# Altium footprint library WCAP-AIG8.PcbLib: 28 footprints (part 2 of 2)
Each footprint in its own frame and in the unit in brackets; x right, y up, seen from the top. Pads: shape width x height; smd on the part's side, far side on the other; paste and mask are expansions set on the pad; w line width, h text height; cw(c..) or ccw(c..) is an arc to the next point about the centre after c.
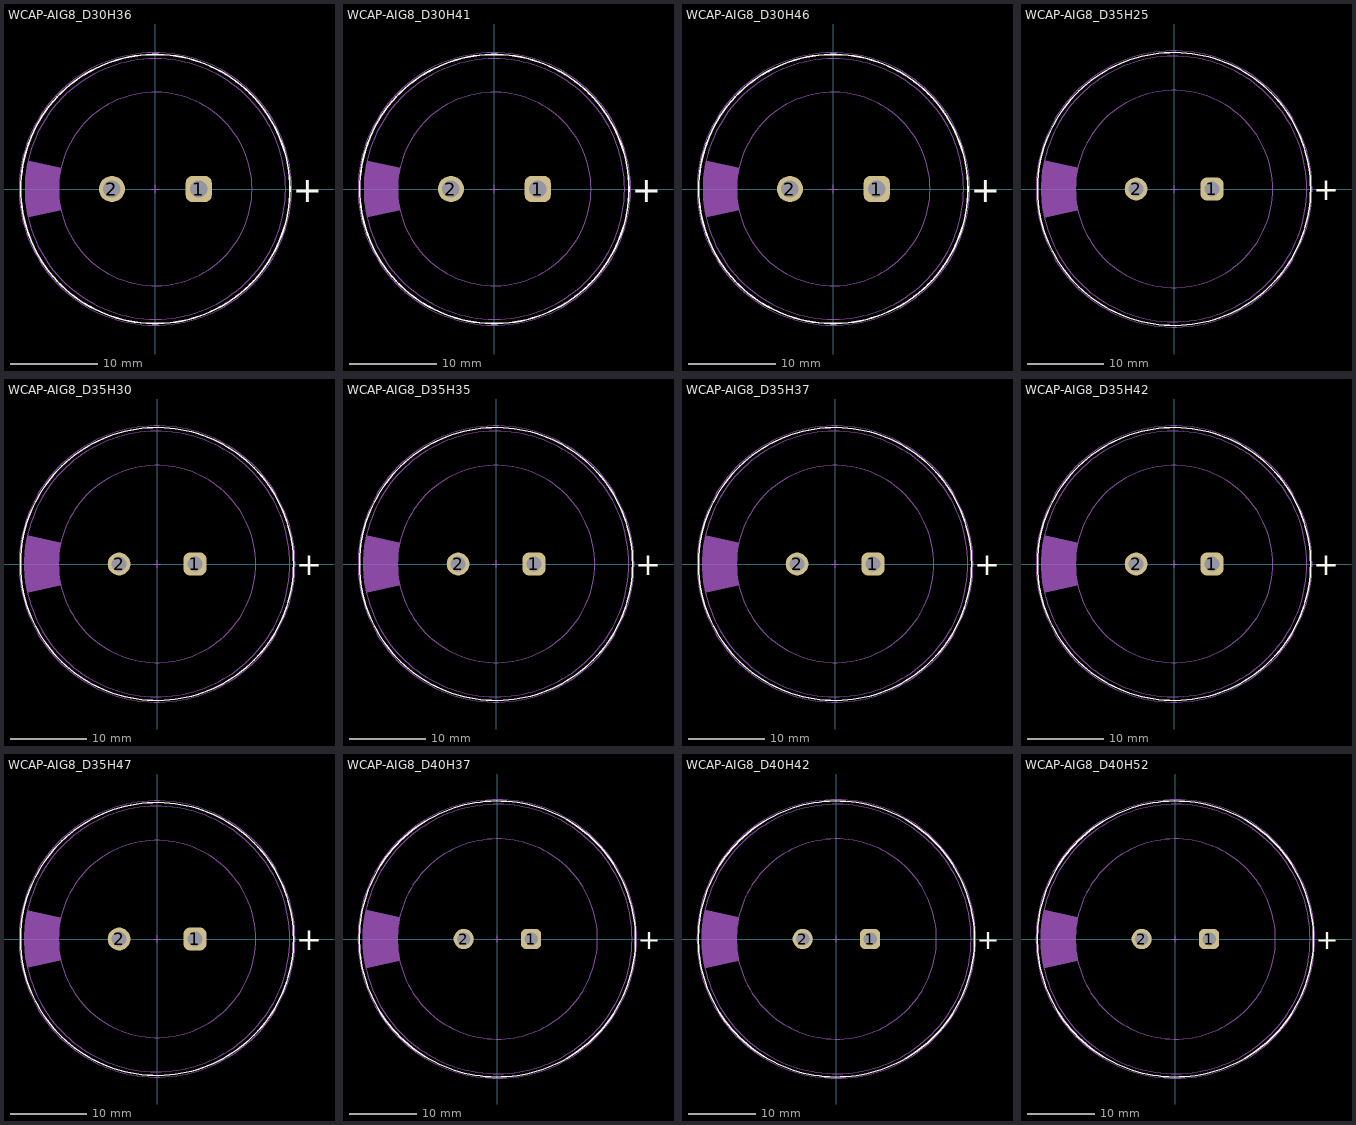
[diagram p1: the footprints below, top view; thin cyan lines are the x and y axes]

## WCAP-AIG8_D30H36 [mm] "Aluminium Electrolytic Snap-In Capacitors, 30x36mm"
height 36
pads (2):
  rrect50% 3x3 hole 2: 1(5,0)
  round 3 hole 2: 2(-5,0)
Top Overlay:
  circle w0.2: c0,0 r15.5
  text "+" at 15.85,-1.5 h3
Top Assembly:
  circle w0.1: c0,0 r11.14
  circle w0.1: c0,0 r15
  region: -14.643,-3.251 -10.874,-2.422 -10.874,-2.421 -10.936,-2.122 -11.036,-1.52 -11.102,-0.914 -11.136,-0.305 -11.136,0.305 -11.102,0.914 -11.036,1.52 -10.936,2.122 -10.874,2.421 -10.874,2.422 -14.643,3.251 -14.732,2.851 -14.866,2.042 -14.955,1.228 -15,0.41 -15,-0.41 -14.955,-1.228 -14.866,-2.042 -14.732,-2.851
Top Designator:
  text ".Designator" at -3.647,-0.357 h1
Top 3D Body:
  circle w0.1: c0,0 r11.14
  circle w0.1: c0,0 r15
  region: -14.643,-3.251 -10.874,-2.422 -10.874,-2.421 -10.936,-2.122 -11.036,-1.52 -11.102,-0.914 -11.136,-0.305 -11.136,0.305 -11.102,0.914 -11.036,1.52 -10.936,2.122 -10.874,2.421 -10.874,2.422 -14.643,3.251 -14.732,2.851 -14.866,2.042 -14.955,1.228 -15,0.41 -15,-0.41 -14.955,-1.228 -14.866,-2.042 -14.732,-2.851
Top Courtyard:
  circle w0.05: c0,0 r15.7
Top Component Center:
  lines w0.1: -0.5,0 0.5,0 ; 0,-0.5 0,0.5
3D body "30x36.stp": height 36.09, standoff -6.05, extent -14.96,-14.999 14.999,15

## WCAP-AIG8_D30H41 [mm] "Aluminium Electrolytic Snap-In Capacitors, 30x41mm"
height 41
pads (2):
  rrect50% 3x3 hole 2: 1(5,0)
  round 3 hole 2: 2(-5,0)
Top Overlay:
  circle w0.2: c0,0 r15.5
  text "+" at 15.85,-1.5 h3
Top Assembly:
  circle w0.1: c0,0 r15
  circle w0.1: c0,0 r11.14
  region: -14.643,-3.251 -10.874,-2.422 -10.874,-2.421 -10.936,-2.122 -11.036,-1.52 -11.102,-0.914 -11.136,-0.305 -11.136,0.305 -11.102,0.914 -11.036,1.52 -10.936,2.122 -10.874,2.421 -10.874,2.422 -14.643,3.251 -14.732,2.851 -14.866,2.042 -14.955,1.228 -15,0.41 -15,-0.41 -14.955,-1.228 -14.866,-2.042 -14.732,-2.851
Top Designator:
  text ".Designator" at -3.647,-0.357 h1
Top 3D Body:
  circle w0.1: c0,0 r15
  circle w0.1: c0,0 r11.14
  region: -14.643,-3.251 -10.874,-2.422 -10.874,-2.421 -10.936,-2.122 -11.036,-1.52 -11.102,-0.914 -11.136,-0.305 -11.136,0.305 -11.102,0.914 -11.036,1.52 -10.936,2.122 -10.874,2.421 -10.874,2.422 -14.643,3.251 -14.732,2.851 -14.866,2.042 -14.955,1.228 -15,0.41 -15,-0.41 -14.955,-1.228 -14.866,-2.042 -14.732,-2.851
Top Courtyard:
  circle w0.05: c0,0 r15.7
Top Component Center:
  lines w0.1: -0.5,0 0.5,0 ; 0,-0.5 0,0.5
3D body "30x41.stp": height 41.09, standoff -6.05, extent -14.96,-14.995 14.999,14.996

## WCAP-AIG8_D30H46 [mm] "Aluminium Electrolytic Snap-In Capacitors, 30x46mm"
height 46
pads (2):
  rrect50% 3x3 hole 2: 1(5,0)
  round 3 hole 2: 2(-5,0)
Top Overlay:
  circle w0.2: c0,0 r15.5
  text "+" at 15.85,-1.5 h3
Top Assembly:
  circle w0.1: c0,0 r11.14
  circle w0.1: c0,0 r15
  region: -14.643,-3.251 -10.874,-2.422 -10.874,-2.421 -10.936,-2.122 -11.036,-1.52 -11.102,-0.914 -11.136,-0.305 -11.136,0.305 -11.102,0.914 -11.036,1.52 -10.936,2.122 -10.874,2.421 -10.874,2.422 -14.643,3.251 -14.732,2.851 -14.866,2.042 -14.955,1.228 -15,0.41 -15,-0.41 -14.955,-1.228 -14.866,-2.042 -14.732,-2.851
Top Designator:
  text ".Designator" at -3.647,-0.357 h1
Top 3D Body:
  circle w0.1: c0,0 r11.14
  circle w0.1: c0,0 r15
  region: -14.643,-3.251 -10.874,-2.422 -10.874,-2.421 -10.936,-2.122 -11.036,-1.52 -11.102,-0.914 -11.136,-0.305 -11.136,0.305 -11.102,0.914 -11.036,1.52 -10.936,2.122 -10.874,2.421 -10.874,2.422 -14.643,3.251 -14.732,2.851 -14.866,2.042 -14.955,1.228 -15,0.41 -15,-0.41 -14.955,-1.228 -14.866,-2.042 -14.732,-2.851
Top Courtyard:
  circle w0.05: c0,0 r15.7
Top Component Center:
  lines w0.1: -0.5,0 0.5,0 ; 0,-0.5 0,0.5
3D body "30x46.stp": height 46.09, standoff -6.05, extent -14.96,-14.999 14.999,14.999

## WCAP-AIG8_D35H25 [mm] "Aluminium Electrolytic Snap-In Capacitors, 35x25mm"
height 25
pads (2):
  rrect50% 3x3 hole 2: 1(5,0)
  round 3 hole 2: 2(-5,0)
Top Overlay:
  circle w0.2: c0,0 r18
  text "+" at 18.35,-1.5 h3
Top Assembly:
  circle w0.1: c0,0 r13
  circle w0.1: c0,0 r17.5
  region: -17.083,-3.797 -12.69,-2.823 -12.69,-2.821 -12.763,-2.473 -12.879,-1.772 -12.956,-1.065 -12.995,-0.355 -12.995,0.355 -12.956,1.065 -12.879,1.772 -12.763,2.473 -12.69,2.821 -12.69,2.823 -17.083,3.797 -17.187,3.33 -17.343,2.386 -17.448,1.434 -17.5,0.479 -17.5,-0.479 -17.448,-1.434 -17.343,-2.386 -17.187,-3.33
Top Designator:
  text ".Designator" at -3.647,-0.357 h1
Top 3D Body:
  circle w0.1: c0,0 r13
  circle w0.1: c0,0 r17.5
  region: -17.083,-3.797 -12.69,-2.823 -12.69,-2.821 -12.763,-2.473 -12.879,-1.772 -12.956,-1.065 -12.995,-0.355 -12.995,0.355 -12.956,1.065 -12.879,1.772 -12.763,2.473 -12.69,2.821 -12.69,2.823 -17.083,3.797 -17.187,3.33 -17.343,2.386 -17.448,1.434 -17.5,0.479 -17.5,-0.479 -17.448,-1.434 -17.343,-2.386 -17.187,-3.33
Top Courtyard:
  circle w0.05: c0,0 r18.2
Top Component Center:
  lines w0.1: -0.5,0 0.5,0 ; 0,-0.5 0,0.5
3D body "35x25.stp": height 25.09, standoff -6.05, extent -17.46,-17.495 17.5,17.498

## WCAP-AIG8_D35H30 [mm] "Aluminium Electrolytic Snap-In Capacitors, 35x30mm"
height 30
pads (2):
  rrect50% 3x3 hole 2: 1(5,0)
  round 3 hole 2: 2(-5,0)
Top Overlay:
  circle w0.2: c0,0 r18
  text "+" at 18.35,-1.5 h3
Top Assembly:
  circle w0.1: c0,0 r17.5
  circle w0.1: c0,0 r13
  region: -17.083,-3.797 -12.69,-2.823 -12.69,-2.821 -12.763,-2.473 -12.879,-1.772 -12.956,-1.065 -12.995,-0.355 -12.995,0.355 -12.956,1.065 -12.879,1.772 -12.763,2.473 -12.69,2.821 -12.69,2.823 -17.083,3.797 -17.187,3.33 -17.343,2.386 -17.448,1.434 -17.5,0.479 -17.5,-0.479 -17.448,-1.434 -17.343,-2.386 -17.187,-3.33
Top Designator:
  text ".Designator" at -3.647,-0.357 h1
Top 3D Body:
  circle w0.1: c0,0 r17.5
  circle w0.1: c0,0 r13
  region: -17.083,-3.797 -12.69,-2.823 -12.69,-2.821 -12.763,-2.473 -12.879,-1.772 -12.956,-1.065 -12.995,-0.355 -12.995,0.355 -12.956,1.065 -12.879,1.772 -12.763,2.473 -12.69,2.821 -12.69,2.823 -17.083,3.797 -17.187,3.33 -17.343,2.386 -17.448,1.434 -17.5,0.479 -17.5,-0.479 -17.448,-1.434 -17.343,-2.386 -17.187,-3.33
Top Courtyard:
  circle w0.05: c0,0 r18.2
Top Component Center:
  lines w0.1: -0.5,0 0.5,0 ; 0,-0.5 0,0.5
3D body "35x30.stp": height 30.09, standoff -6.05, extent -17.46,-17.495 17.5,17.498

## WCAP-AIG8_D35H35 [mm] "Aluminium Electrolytic Snap-In Capacitors, 35x35mm"
height 35
pads (2):
  rrect50% 3x3 hole 2: 1(5,0)
  round 3 hole 2: 2(-5,0)
Top Overlay:
  circle w0.2: c0,0 r18
  text "+" at 18.35,-1.5 h3
Top Assembly:
  circle w0.1: c0,0 r13
  circle w0.1: c0,0 r17.5
  region: -17.083,-3.797 -12.69,-2.823 -12.69,-2.821 -12.763,-2.473 -12.879,-1.772 -12.956,-1.065 -12.995,-0.355 -12.995,0.355 -12.956,1.065 -12.879,1.772 -12.763,2.473 -12.69,2.821 -12.69,2.823 -17.083,3.797 -17.187,3.33 -17.343,2.386 -17.448,1.434 -17.5,0.479 -17.5,-0.479 -17.448,-1.434 -17.343,-2.386 -17.187,-3.33
Top Designator:
  text ".Designator" at -3.647,-0.357 h1
Top 3D Body:
  circle w0.1: c0,0 r13
  circle w0.1: c0,0 r17.5
  region: -17.083,-3.797 -12.69,-2.823 -12.69,-2.821 -12.763,-2.473 -12.879,-1.772 -12.956,-1.065 -12.995,-0.355 -12.995,0.355 -12.956,1.065 -12.879,1.772 -12.763,2.473 -12.69,2.821 -12.69,2.823 -17.083,3.797 -17.187,3.33 -17.343,2.386 -17.448,1.434 -17.5,0.479 -17.5,-0.479 -17.448,-1.434 -17.343,-2.386 -17.187,-3.33
Top Courtyard:
  circle w0.05: c0,0 r18.2
Top Component Center:
  lines w0.1: -0.5,0 0.5,0 ; 0,-0.5 0,0.5
3D body "35x35.stp": height 35.09, standoff -6.05, extent -17.46,-17.5 17.5,17.499

## WCAP-AIG8_D35H37 [mm] "Aluminium Electrolytic Snap-In Capacitors, 35x37mm"
height 37
pads (2):
  rrect50% 3x3 hole 2: 1(5,0)
  round 3 hole 2: 2(-5,0)
Top Overlay:
  circle w0.2: c0,0 r18
  text "+" at 18.35,-1.5 h3
Top Assembly:
  circle w0.1: c0,0 r17.5
  circle w0.1: c0,0 r13
  region: -17.083,-3.797 -12.69,-2.823 -12.69,-2.821 -12.763,-2.473 -12.879,-1.772 -12.956,-1.065 -12.995,-0.355 -12.995,0.355 -12.956,1.065 -12.879,1.772 -12.763,2.473 -12.69,2.821 -12.69,2.823 -17.083,3.797 -17.187,3.33 -17.343,2.386 -17.448,1.434 -17.5,0.479 -17.5,-0.479 -17.448,-1.434 -17.343,-2.386 -17.187,-3.33
Top Designator:
  text ".Designator" at -3.647,-0.357 h1
Top 3D Body:
  circle w0.1: c0,0 r17.5
  circle w0.1: c0,0 r13
  region: -17.083,-3.797 -12.69,-2.823 -12.69,-2.821 -12.763,-2.473 -12.879,-1.772 -12.956,-1.065 -12.995,-0.355 -12.995,0.355 -12.956,1.065 -12.879,1.772 -12.763,2.473 -12.69,2.821 -12.69,2.823 -17.083,3.797 -17.187,3.33 -17.343,2.386 -17.448,1.434 -17.5,0.479 -17.5,-0.479 -17.448,-1.434 -17.343,-2.386 -17.187,-3.33
Top Courtyard:
  circle w0.05: c0,0 r18.2
Top Component Center:
  lines w0.1: -0.5,0 0.5,0 ; 0,-0.5 0,0.5
3D body "35x37.stp": height 37.09, standoff -6.05, extent -17.46,-17.497 17.5,17.499

## WCAP-AIG8_D35H42 [mm] "Aluminium Electrolytic Snap-In Capacitors, 35x42mm"
height 42
pads (2):
  rrect50% 3x3 hole 2: 1(5,0)
  round 3 hole 2: 2(-5,0)
Top Overlay:
  circle w0.2: c0,0 r18
  text "+" at 18.35,-1.5 h3
Top Assembly:
  circle w0.1: c0,0 r13
  circle w0.1: c0,0 r17.5
  region: -17.083,-3.797 -12.69,-2.823 -12.69,-2.821 -12.763,-2.473 -12.879,-1.772 -12.956,-1.065 -12.995,-0.355 -12.995,0.355 -12.956,1.065 -12.879,1.772 -12.763,2.473 -12.69,2.821 -12.69,2.823 -17.083,3.797 -17.187,3.33 -17.343,2.386 -17.448,1.434 -17.5,0.479 -17.5,-0.479 -17.448,-1.434 -17.343,-2.386 -17.187,-3.33
Top Designator:
  text ".Designator" at -3.647,-0.357 h1
Top 3D Body:
  circle w0.1: c0,0 r13
  circle w0.1: c0,0 r17.5
  region: -17.083,-3.797 -12.69,-2.823 -12.69,-2.821 -12.763,-2.473 -12.879,-1.772 -12.956,-1.065 -12.995,-0.355 -12.995,0.355 -12.956,1.065 -12.879,1.772 -12.763,2.473 -12.69,2.821 -12.69,2.823 -17.083,3.797 -17.187,3.33 -17.343,2.386 -17.448,1.434 -17.5,0.479 -17.5,-0.479 -17.448,-1.434 -17.343,-2.386 -17.187,-3.33
Top Courtyard:
  circle w0.05: c0,0 r18.2
Top Component Center:
  lines w0.1: -0.5,0 0.5,0 ; 0,-0.5 0,0.5
3D body "35x42.stp": height 42.09, standoff -6.05, extent -17.46,-17.498 17.5,17.496

## WCAP-AIG8_D35H47 [mm] "Aluminium Electrolytic Snap-In Capacitors, §¶35x47mm"
height 47
pads (2):
  rrect50% 3x3 hole 2: 1(5,0)
  round 3 hole 2: 2(-5,0)
Top Overlay:
  circle w0.2: c0,0 r18
  text "+" at 18.35,-1.5 h3
Top Assembly:
  circle w0.1: c0,0 r13
  circle w0.1: c0,0 r17.5
  region: -17.083,-3.797 -12.69,-2.823 -12.69,-2.821 -12.763,-2.473 -12.879,-1.772 -12.956,-1.065 -12.995,-0.355 -12.995,0.355 -12.956,1.065 -12.879,1.772 -12.763,2.473 -12.69,2.821 -12.69,2.823 -17.083,3.797 -17.187,3.33 -17.343,2.386 -17.448,1.434 -17.5,0.479 -17.5,-0.479 -17.448,-1.434 -17.343,-2.386 -17.187,-3.33
Top Designator:
  text ".Designator" at -3.647,-0.357 h1
Top 3D Body:
  circle w0.1: c0,0 r13
  circle w0.1: c0,0 r17.5
  region: -17.083,-3.797 -12.69,-2.823 -12.69,-2.821 -12.763,-2.473 -12.879,-1.772 -12.956,-1.065 -12.995,-0.355 -12.995,0.355 -12.956,1.065 -12.879,1.772 -12.763,2.473 -12.69,2.821 -12.69,2.823 -17.083,3.797 -17.187,3.33 -17.343,2.386 -17.448,1.434 -17.5,0.479 -17.5,-0.479 -17.448,-1.434 -17.343,-2.386 -17.187,-3.33
Top Courtyard:
  circle w0.05: c0,0 r18.2
Top Component Center:
  lines w0.1: -0.5,0 0.5,0 ; 0,-0.5 0,0.5
3D body "35x47.stp": height 47.09, standoff -6.05, extent -17.46,-17.5 17.5,17.5

## WCAP-AIG8_D40H37 [mm] "Aluminium Electrolytic Snap-In Capacitors, 40x37mm"
height 37
pads (2):
  rrect50% 3x3 hole 2: 1(5,0)
  round 3 hole 2: 2(-5,0)
Top Overlay:
  circle w0.2: c0,0 r20.5
  text "+" at 20.85,-1.5 h3
Top Assembly:
  circle w0.1: c0,0 r20
  circle w0.1: c0,0 r14.86
  region: -19.525,-4.334 -14.505,-3.231 -14.588,-2.832 -14.721,-2.029 -14.81,-1.22 -14.854,-0.407 -14.854,0.407 -14.81,1.22 -14.721,2.029 -14.588,2.832 -14.505,3.231 -19.525,4.334 -19.643,3.801 -19.821,2.723 -19.94,1.637 -20,0.546 -20,-0.546 -19.94,-1.637 -19.821,-2.723 -19.643,-3.801
Top Designator:
  text ".Designator" at -3.647,-0.357 h1
Top 3D Body:
  circle w0.1: c0,0 r20
  circle w0.1: c0,0 r14.86
  region: -19.525,-4.334 -14.505,-3.231 -14.588,-2.832 -14.721,-2.029 -14.81,-1.22 -14.854,-0.407 -14.854,0.407 -14.81,1.22 -14.721,2.029 -14.588,2.832 -14.505,3.231 -19.525,4.334 -19.643,3.801 -19.821,2.723 -19.94,1.637 -20,0.546 -20,-0.546 -19.94,-1.637 -19.821,-2.723 -19.643,-3.801
Top Courtyard:
  circle w0.05: c0,0 r20.7
Top Component Center:
  lines w0.1: -0.5,0 0.5,0 ; 0,-0.5 0,0.5
3D body "40x37.stp": height 37.09, standoff -6.05, extent -19.96,-19.995 20,19.997

## WCAP-AIG8_D40H42 [mm] "Aluminium Electrolytic Snap-In Capacitors, §¶40x42mm"
height 42
pads (2):
  rrect50% 3x3 hole 2: 1(5,0)
  round 3 hole 2: 2(-5,0)
Top Overlay:
  circle w0.2: c0,0 r20.5
  text "+" at 20.85,-1.5 h3
Top Assembly:
  circle w0.1: c0,0 r14.86
  circle w0.1: c0,0 r20
  region: -19.525,-4.334 -14.505,-3.231 -14.588,-2.832 -14.721,-2.029 -14.81,-1.22 -14.854,-0.407 -14.854,0.407 -14.81,1.22 -14.721,2.029 -14.588,2.832 -14.505,3.231 -19.525,4.334 -19.643,3.801 -19.821,2.723 -19.94,1.637 -20,0.546 -20,-0.546 -19.94,-1.637 -19.821,-2.723 -19.643,-3.801
Top Designator:
  text ".Designator" at -3.647,-0.357 h1
Top 3D Body:
  circle w0.1: c0,0 r14.86
  circle w0.1: c0,0 r20
  region: -19.525,-4.334 -14.505,-3.231 -14.588,-2.832 -14.721,-2.029 -14.81,-1.22 -14.854,-0.407 -14.854,0.407 -14.81,1.22 -14.721,2.029 -14.588,2.832 -14.505,3.231 -19.525,4.334 -19.643,3.801 -19.821,2.723 -19.94,1.637 -20,0.546 -20,-0.546 -19.94,-1.637 -19.821,-2.723 -19.643,-3.801
Top Courtyard:
  circle w0.05: c0,0 r20.7
Top Component Center:
  lines w0.1: -0.5,0 0.5,0 ; 0,-0.5 0,0.5
3D body "40x42.stp": height 42.09, standoff -6.05, extent -19.96,-20 20,19.998

## WCAP-AIG8_D40H52 [mm] "Aluminium Electrolytic Snap-In Capacitors, §¶40x52mm"
height 52
pads (2):
  rrect50% 3x3 hole 2: 1(5,0)
  round 3 hole 2: 2(-5,0)
Top Overlay:
  circle w0.2: c0,0 r20.5
  text "+" at 20.85,-1.5 h3
Top Assembly:
  circle w0.1: c0,0 r20
  circle w0.1: c0,0 r14.86
  region: -19.525,-4.334 -14.505,-3.231 -14.588,-2.832 -14.721,-2.029 -14.81,-1.22 -14.854,-0.407 -14.854,0.407 -14.81,1.22 -14.721,2.029 -14.588,2.832 -14.505,3.231 -19.525,4.334 -19.643,3.801 -19.821,2.723 -19.94,1.637 -20,0.546 -20,-0.546 -19.94,-1.637 -19.821,-2.723 -19.643,-3.801
Top Designator:
  text ".Designator" at -3.647,-0.357 h1
Top 3D Body:
  circle w0.1: c0,0 r20
  circle w0.1: c0,0 r14.86
  region: -19.525,-4.334 -14.505,-3.231 -14.588,-2.832 -14.721,-2.029 -14.81,-1.22 -14.854,-0.407 -14.854,0.407 -14.81,1.22 -14.721,2.029 -14.588,2.832 -14.505,3.231 -19.525,4.334 -19.643,3.801 -19.821,2.723 -19.94,1.637 -20,0.546 -20,-0.546 -19.94,-1.637 -19.821,-2.723 -19.643,-3.801
Top Courtyard:
  circle w0.05: c0,0 r20.7
Top Component Center:
  lines w0.1: -0.5,0 0.5,0 ; 0,-0.5 0,0.5
3D body "40x52.stp": height 52.09, standoff -6.05, extent -19.96,-20 20,20